# EAGLE library part NAV-SWITCH (library RemoteParts)
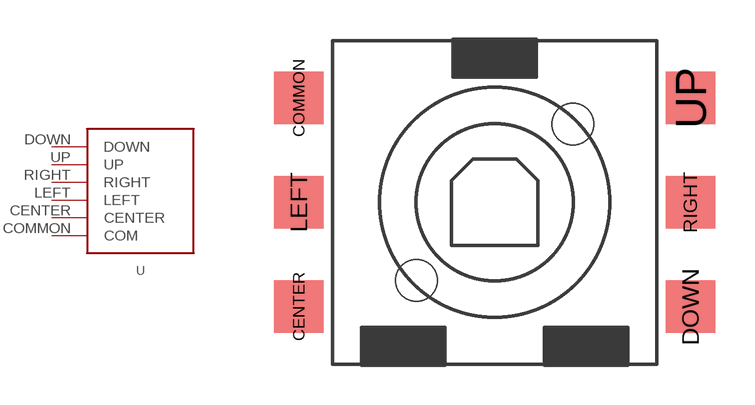
[diagram p5: symbol with the pads of NAV-SWITCH-JS5208; footprint NAV-SWITCH-JS5208]

Designator prefix -

## NAV-SWITCH (AUX1DIST: Digikey; AUX1DISTPN: EG1091-ND; CREATOR: Swanson; DIST: DIGIKEY; DISTPN: EG4561-ND; MOUNTING: TH)  [NAV-SWITCH-JS5208]
CENTER  CENTER
COMMON  COM
DOWN  DOWN
LEFT  LEFT
RIGHT  RIGHT
UP  UP

## Footprint NAV-SWITCH-JS5208 (pad centres in mm)
smd 1.9 x 2: CENTER -7.5,-4; COMMON -7.5,4; DOWN 7.5,-4; LEFT -7.5,0; RIGHT 7.5,0; UP 7.5,4
hole 1.6 at -3,-3
hole 1.6 at 3,3